# Altium schematic symbol library WCAP-ATLL.SchLib: 209 symbols (part 2 of 5)
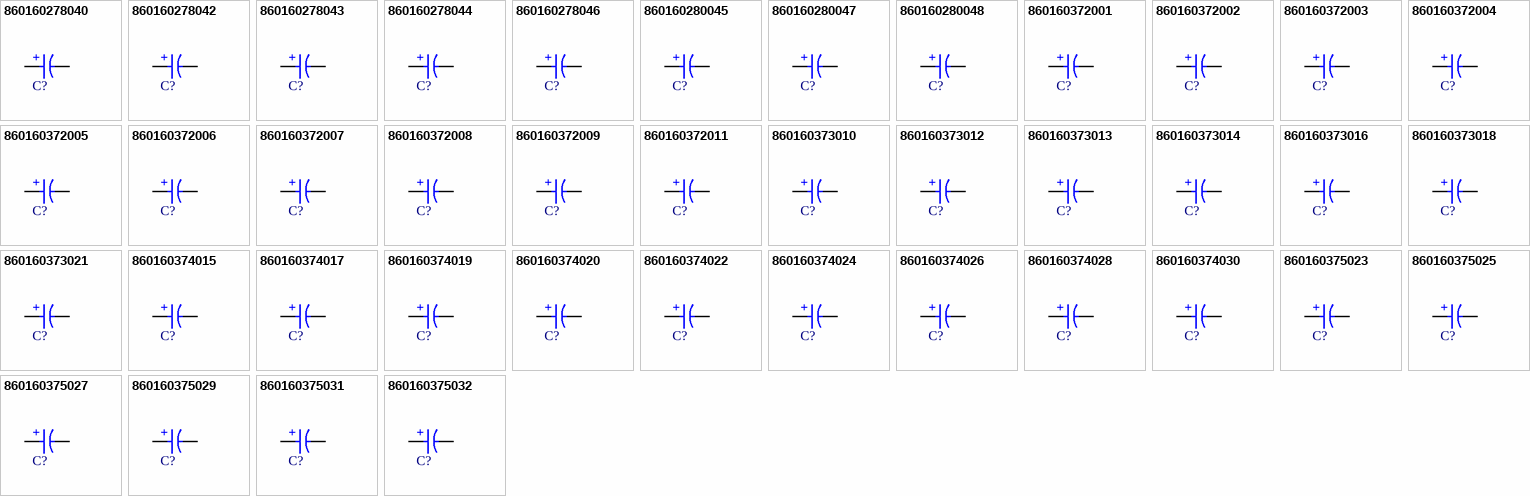
[diagram p6: symbols 860160278040 to 860160375032]

## 860160372005
designator C?, comment 33µF  (value not drawn)
WCAP-ATLL Aluminum Electrolytic Capacitor, Radial, THT, D5 x H11mm, 33µF, 16V; Manufacturer Part Number: 860160372005; Manufacturer: Wurth Elektronik; Capacitance Tolerance: +/-20%; Dissipation Factor: 16%; Endurance: 4000h; Leakage Current: 5.28µA; Ripple Current: 144mA; Technical Reference: ATEC110330M016DSPA3D000; Category: Aluminum Electrolytic Capacitors; Match Code: WCAP-ATLL; ComponentLink1Description: Website Link; ComponentLink1URL: https://www.we-online.com/redexpert/article/860160372005?ad; ComponentLink2Description: Datasheet Link; ComponentLink2URL: https://www.we-online.com/redexpert/spec/860160372005?ad; Mount: Through Hole; Operating Temperature Max: 105°C; Operating Temperature Min: -55°C; Packaging: Ammo Pack; Height: 11mm; Diameter: 5mm; Capacitance: 33µF; Rated Voltage (DC): 16V
footprint WCAP-ATLL_D5H11
simulation model 860160372005_33uF
pins: 1 P, 2 N
text: +

## 860160372006
designator C?, comment 39µF  (value not drawn)
WCAP-ATLL Aluminum Electrolytic Capacitor, Radial, THT, D5 x H11mm, 39µF, 16V; Manufacturer Part Number: 860160372006; Manufacturer: Wurth Elektronik; Capacitance Tolerance: +/-20%; Dissipation Factor: 16%; Endurance: 4000h; Leakage Current: 6.24µA; Ripple Current: 168mA; Technical Reference: ATEC110390M016DSPA3D000; Category: Aluminum Electrolytic Capacitors; Match Code: WCAP-ATLL; ComponentLink1Description: Website Link; ComponentLink1URL: https://www.we-online.com/redexpert/article/860160372006?ad; ComponentLink2Description: Datasheet Link; ComponentLink2URL: https://www.we-online.com/redexpert/spec/860160372006?ad; Mount: Through Hole; Operating Temperature Max: 105°C; Operating Temperature Min: -55°C; Packaging: Ammo Pack; Height: 11mm; Diameter: 5mm; Capacitance: 39µF; Rated Voltage (DC): 16V
footprint WCAP-ATLL_D5H11
simulation model 860160372006_39uF
pins: 1 P, 2 N
text: +

## 860160372007
designator C?, comment 47µF  (value not drawn)
WCAP-ATLL Aluminum Electrolytic Capacitor, Radial, THT, D5 x H11mm, 47µF, 16V; Manufacturer Part Number: 860160372007; Manufacturer: Wurth Elektronik; Capacitance Tolerance: +/-20%; Dissipation Factor: 16%; Endurance: 4000h; Leakage Current: 7.52µA; Ripple Current: 186mA; Technical Reference: ATEC110470M016DSPA3D000; Category: Aluminum Electrolytic Capacitors; Match Code: WCAP-ATLL; ComponentLink1Description: Website Link; ComponentLink1URL: https://www.we-online.com/redexpert/article/860160372007?ad; ComponentLink2Description: Datasheet Link; ComponentLink2URL: https://www.we-online.com/redexpert/spec/860160372007?ad; Mount: Through Hole; Operating Temperature Max: 105°C; Operating Temperature Min: -55°C; Packaging: Ammo Pack; Height: 11mm; Diameter: 5mm; Capacitance: 47µF; Rated Voltage (DC): 16V
footprint WCAP-ATLL_D5H11
simulation model 860160372007_47uF
pins: 1 P, 2 N
text: +

## 860160372008
designator C?, comment 56µF  (value not drawn)
WCAP-ATLL Aluminum Electrolytic Capacitor, Radial, THT, D5 x H11mm, 56µF, 16V; Manufacturer Part Number: 860160372008; Manufacturer: Wurth Elektronik; Capacitance Tolerance: +/-20%; Dissipation Factor: 16%; Endurance: 4000h; Leakage Current: 8.96µA; Ripple Current: 210mA; Technical Reference: ATEC110560M016DSPA3D000; Category: Aluminum Electrolytic Capacitors; Match Code: WCAP-ATLL; ComponentLink1Description: Website Link; ComponentLink1URL: https://www.we-online.com/redexpert/article/860160372008?ad; ComponentLink2Description: Datasheet Link; ComponentLink2URL: https://www.we-online.com/redexpert/spec/860160372008?ad; Mount: Through Hole; Operating Temperature Max: 105°C; Operating Temperature Min: -55°C; Packaging: Ammo Pack; Height: 11mm; Diameter: 5mm; Capacitance: 56µF; Rated Voltage (DC): 16V
footprint WCAP-ATLL_D5H11
simulation model 860160372008_56uF
pins: 1 P, 2 N
text: +

## 860160372009
designator C?, comment 68µF  (value not drawn)
WCAP-ATLL Aluminum Electrolytic Capacitor, Radial, THT, D5 x H11mm, 68µF, 16V; Manufacturer Part Number: 860160372009; Manufacturer: Wurth Elektronik; Capacitance Tolerance: +/-20%; Dissipation Factor: 16%; Endurance: 4000h; Leakage Current: 10.88µA; Ripple Current: 228mA; Technical Reference: ATEC110680M016DSPA3D000; Category: Aluminum Electrolytic Capacitors; Match Code: WCAP-ATLL; ComponentLink1Description: Website Link; ComponentLink1URL: https://www.we-online.com/redexpert/article/860160372009?ad; ComponentLink2Description: Datasheet Link; ComponentLink2URL: https://www.we-online.com/redexpert/spec/860160372009?ad; Mount: Through Hole; Operating Temperature Max: 105°C; Operating Temperature Min: -55°C; Packaging: Ammo Pack; Height: 11mm; Diameter: 5mm; Capacitance: 68µF; Rated Voltage (DC): 16V
footprint WCAP-ATLL_D5H11
simulation model 860160372009_68uF
pins: 1 P, 2 N
text: +

## 860160372011
designator C?, comment 100µF  (value not drawn)
WCAP-ATLL Aluminum Electrolytic Capacitor, Radial, THT, D5 x H11mm, 100µF, 16V; Manufacturer Part Number: 860160372011; Manufacturer: Wurth Elektronik; Capacitance Tolerance: +/-20%; Dissipation Factor: 16%; Endurance: 3000h; Leakage Current: 16µA; Ripple Current: 228mA; Technical Reference: ATEC110101M016DSPA3C000; Category: Aluminum Electrolytic Capacitors; Match Code: WCAP-ATLL; ComponentLink1Description: Website Link; ComponentLink1URL: https://www.we-online.com/redexpert/article/860160372011?ad; ComponentLink2Description: Datasheet Link; ComponentLink2URL: https://www.we-online.com/redexpert/spec/860160372011?ad; Mount: Through Hole; Operating Temperature Max: 105°C; Operating Temperature Min: -55°C; Packaging: Ammo Pack; Height: 11mm; Diameter: 5mm; Capacitance: 100µF; Rated Voltage (DC): 16V
footprint WCAP-ATLL_D5H11
simulation model 860160372011_100uF
pins: 1 P, 2 N
text: +

## 860160373010
designator C?, comment 82µF  (value not drawn)
WCAP-ATLL Aluminum Electrolytic Capacitor, Radial, THT, D6.3 x H11mm, 82µF, 16V; Manufacturer Part Number: 860160373010; Manufacturer: Wurth Elektronik; Capacitance Tolerance: +/-20%; Dissipation Factor: 16%; Endurance: 4000h; Leakage Current: 13.12µA; Ripple Current: 264mA; Technical Reference: ATED110820M016DSPA4D000; Category: Aluminum Electrolytic Capacitors; Match Code: WCAP-ATLL; ComponentLink1Description: Website Link; ComponentLink1URL: https://www.we-online.com/redexpert/article/860160373010?ad; ComponentLink2Description: Datasheet Link; ComponentLink2URL: https://www.we-online.com/redexpert/spec/860160373010?ad; Mount: Through Hole; Operating Temperature Max: 105°C; Operating Temperature Min: -55°C; Packaging: Ammo Pack; Height: 11mm; Diameter: 6.3mm; Capacitance: 82µF; Rated Voltage (DC): 16V
footprint WCAP-ATLL_D6.3H11
simulation model 860160373010_82uF
pins: 1 P, 2 N
text: +

## 860160373012
designator C?, comment 120µF  (value not drawn)
WCAP-ATLL Aluminum Electrolytic Capacitor, Radial, THT, D6.3 x H11mm, 120µF, 16V; Manufacturer Part Number: 860160373012; Manufacturer: Wurth Elektronik; Capacitance Tolerance: +/-20%; Dissipation Factor: 16%; Endurance: 4000h; Leakage Current: 19.2µA; Ripple Current: 312mA; Technical Reference: ATED110121M016DSPA4D000; Category: Aluminum Electrolytic Capacitors; Match Code: WCAP-ATLL; ComponentLink1Description: Website Link; ComponentLink1URL: https://www.we-online.com/redexpert/article/860160373012?ad; ComponentLink2Description: Datasheet Link; ComponentLink2URL: https://www.we-online.com/redexpert/spec/860160373012?ad; Mount: Through Hole; Operating Temperature Max: 105°C; Operating Temperature Min: -55°C; Packaging: Ammo Pack; Height: 11mm; Diameter: 6.3mm; Capacitance: 120µF; Rated Voltage (DC): 16V
footprint WCAP-ATLL_D6.3H11
simulation model 860160373012_120uF
pins: 1 P, 2 N
text: +

## 860160373013
designator C?, comment 150µF  (value not drawn)
WCAP-ATLL Aluminum Electrolytic Capacitor, Radial, THT, D6.3 x H11mm, 150µF, 16V; Manufacturer Part Number: 860160373013; Manufacturer: Wurth Elektronik; Capacitance Tolerance: +/-20%; Dissipation Factor: 16%; Endurance: 3000h; Leakage Current: 24µA; Ripple Current: 336mA; Technical Reference: ATED110151M016DSPA4C000; Category: Aluminum Electrolytic Capacitors; Match Code: WCAP-ATLL; ComponentLink1Description: Website Link; ComponentLink1URL: https://www.we-online.com/redexpert/article/860160373013?ad; ComponentLink2Description: Datasheet Link; ComponentLink2URL: https://www.we-online.com/redexpert/spec/860160373013?ad; Mount: Through Hole; Operating Temperature Max: 105°C; Operating Temperature Min: -55°C; Packaging: Ammo Pack; Height: 11mm; Diameter: 6.3mm; Capacitance: 150µF; Rated Voltage (DC): 16V
footprint WCAP-ATLL_D6.3H11
simulation model 860160373013_150uF
pins: 1 P, 2 N
text: +

## 860160373014
designator C?, comment 180µF  (value not drawn)
WCAP-ATLL Aluminum Electrolytic Capacitor, Radial, THT, D6.3 x H15mm, 180µF, 16V; Manufacturer Part Number: 860160373014; Manufacturer: Wurth Elektronik; Capacitance Tolerance: +/-20%; Dissipation Factor: 16%; Endurance: 4000h; Leakage Current: 28.8µA; Ripple Current: 420mA; Technical Reference: ATED150181M016DSPA4D000; Category: Aluminum Electrolytic Capacitors; Match Code: WCAP-ATLL; ComponentLink1Description: Website Link; ComponentLink1URL: https://www.we-online.com/redexpert/article/860160373014?ad; ComponentLink2Description: Datasheet Link; ComponentLink2URL: https://www.we-online.com/redexpert/spec/860160373014?ad; Mount: Through Hole; Operating Temperature Max: 105°C; Operating Temperature Min: -55°C; Packaging: Ammo Pack; Height: 15mm; Diameter: 6.3mm; Capacitance: 180µF; Rated Voltage (DC): 16V
footprint WCAP-ATLL_D6.3H15
simulation model 860160373014_180uF
pins: 1 P, 2 N
text: +

## 860160373016
designator C?, comment 220µF  (value not drawn)
WCAP-ATLL Aluminum Electrolytic Capacitor, Radial, THT, D6.3 x H15mm, 220µF, 16V; Manufacturer Part Number: 860160373016; Manufacturer: Wurth Elektronik; Capacitance Tolerance: +/-20%; Dissipation Factor: 16%; Endurance: 4000h; Leakage Current: 35.2µA; Ripple Current: 504mA; Technical Reference: ATED150221M016DSPA4D000; Category: Aluminum Electrolytic Capacitors; Match Code: WCAP-ATLL; ComponentLink1Description: Website Link; ComponentLink1URL: https://www.we-online.com/redexpert/article/860160373016?ad; ComponentLink2Description: Datasheet Link; ComponentLink2URL: https://www.we-online.com/redexpert/spec/860160373016?ad; Mount: Through Hole; Operating Temperature Max: 105°C; Operating Temperature Min: -55°C; Packaging: Ammo Pack; Height: 15mm; Diameter: 6.3mm; Capacitance: 220µF; Rated Voltage (DC): 16V
footprint WCAP-ATLL_D6.3H15
simulation model 860160373016_220uF
pins: 1 P, 2 N
text: +

## 860160373018
designator C?, comment 270µF  (value not drawn)
WCAP-ATLL Aluminum Electrolytic Capacitor, Radial, THT, D6.3 x H15mm, 270µF, 16V; Manufacturer Part Number: 860160373018; Manufacturer: Wurth Elektronik; Capacitance Tolerance: +/-20%; Dissipation Factor: 16%; Endurance: 3000h; Leakage Current: 43.2µA; Ripple Current: 540mA; Technical Reference: ATED150271M016DSPA4C000; Category: Aluminum Electrolytic Capacitors; Match Code: WCAP-ATLL; ComponentLink1Description: Website Link; ComponentLink1URL: https://www.we-online.com/redexpert/article/860160373018?ad; ComponentLink2Description: Datasheet Link; ComponentLink2URL: https://www.we-online.com/redexpert/spec/860160373018?ad; Mount: Through Hole; Operating Temperature Max: 105°C; Operating Temperature Min: -55°C; Packaging: Ammo Pack; Height: 15mm; Diameter: 6.3mm; Capacitance: 270µF; Rated Voltage (DC): 16V
footprint WCAP-ATLL_D6.3H15
simulation model 860160373018_270uF
pins: 1 P, 2 N
text: +

## 860160373021
designator C?, comment 330µF  (value not drawn)
WCAP-ATLL Aluminum Electrolytic Capacitor, Radial, THT, D6.3 x H15mm, 330µF, 16V; Manufacturer Part Number: 860160373021; Manufacturer: Wurth Elektronik; Capacitance Tolerance: +/-20%; Dissipation Factor: 16%; Endurance: 3000h; Leakage Current: 52.8µA; Ripple Current: 588mA; Technical Reference: ATED150331M016DSPA4C000; Category: Aluminum Electrolytic Capacitors; Match Code: WCAP-ATLL; ComponentLink1Description: Website Link; ComponentLink1URL: https://www.we-online.com/redexpert/article/860160373021?ad; ComponentLink2Description: Datasheet Link; ComponentLink2URL: https://www.we-online.com/redexpert/spec/860160373021?ad; Mount: Through Hole; Operating Temperature Max: 105°C; Operating Temperature Min: -55°C; Packaging: Ammo Pack; Height: 15mm; Diameter: 6.3mm; Capacitance: 330µF; Rated Voltage (DC): 16V
footprint WCAP-ATLL_D6.3H15
simulation model 860160373021_330uF
pins: 1 P, 2 N
text: +

## 860160374015
designator C?, comment 180µF  (value not drawn)
WCAP-ATLL Aluminum Electrolytic Capacitor, Radial, THT, D8 x H11.5mm, 180µF, 16V; Manufacturer Part Number: 860160374015; Manufacturer: Wurth Elektronik; Capacitance Tolerance: +/-20%; Dissipation Factor: 16%; Endurance: 7000h; Leakage Current: 28.8µA; Ripple Current: 426mA; Technical Reference: ATEE115181M016DSPA7G000; Category: Aluminum Electrolytic Capacitors; Match Code: WCAP-ATLL; ComponentLink1Description: Website Link; ComponentLink1URL: https://www.we-online.com/redexpert/article/860160374015?ad; ComponentLink2Description: Datasheet Link; ComponentLink2URL: https://www.we-online.com/redexpert/spec/860160374015?ad; Mount: Through Hole; Operating Temperature Max: 105°C; Operating Temperature Min: -55°C; Packaging: Ammo Pack; Height: 11.5mm; Diameter: 8mm; Capacitance: 180µF; Rated Voltage (DC): 16V
footprint WCAP-ATLL_D8H11.5
simulation model 860160374015_180uF
pins: 1 P, 2 N
text: +

## 860160374017
designator C?, comment 220µF  (value not drawn)
WCAP-ATLL Aluminum Electrolytic Capacitor, Radial, THT, D8 x H11.5mm, 220µF, 16V; Manufacturer Part Number: 860160374017; Manufacturer: Wurth Elektronik; Capacitance Tolerance: +/-20%; Dissipation Factor: 16%; Endurance: 7000h; Leakage Current: 35.2µA; Ripple Current: 540mA; Technical Reference: ATEE115221M016DSPA7G000; Category: Aluminum Electrolytic Capacitors; Match Code: WCAP-ATLL; ComponentLink1Description: Website Link; ComponentLink1URL: https://www.we-online.com/redexpert/article/860160374017?ad; ComponentLink2Description: Datasheet Link; ComponentLink2URL: https://www.we-online.com/redexpert/spec/860160374017?ad; Mount: Through Hole; Operating Temperature Max: 105°C; Operating Temperature Min: -55°C; Packaging: Ammo Pack; Height: 11.5mm; Diameter: 8mm; Capacitance: 220µF; Rated Voltage (DC): 16V
footprint WCAP-ATLL_D8H11.5
simulation model 860160374017_220uF
pins: 1 P, 2 N
text: +

## 860160374019
designator C?, comment 270µF  (value not drawn)
WCAP-ATLL Aluminum Electrolytic Capacitor, Radial, THT, D8 x H11.5mm, 270µF, 16V; Manufacturer Part Number: 860160374019; Manufacturer: Wurth Elektronik; Capacitance Tolerance: +/-20%; Dissipation Factor: 16%; Endurance: 7000h; Leakage Current: 43.2µA; Ripple Current: 582mA; Technical Reference: ATEE115271M016DSPA7G000; Category: Aluminum Electrolytic Capacitors; Match Code: WCAP-ATLL; ComponentLink1Description: Website Link; ComponentLink1URL: https://www.we-online.com/redexpert/article/860160374019?ad; ComponentLink2Description: Datasheet Link; ComponentLink2URL: https://www.we-online.com/redexpert/spec/860160374019?ad; Mount: Through Hole; Operating Temperature Max: 105°C; Operating Temperature Min: -55°C; Packaging: Ammo Pack; Height: 11.5mm; Diameter: 8mm; Capacitance: 270µF; Rated Voltage (DC): 16V
footprint WCAP-ATLL_D8H11.5
simulation model 860160374019_270uF
pins: 1 P, 2 N
text: +

## 860160374020
designator C?, comment 330µF  (value not drawn)
WCAP-ATLL Aluminum Electrolytic Capacitor, Radial, THT, D8 x H11.5mm, 330µF, 16V; Manufacturer Part Number: 860160374020; Manufacturer: Wurth Elektronik; Capacitance Tolerance: +/-20%; Dissipation Factor: 16%; Endurance: 4000h; Leakage Current: 52.8µA; Ripple Current: 588mA; Technical Reference: ATEE115331M016DSPA7D000; Category: Aluminum Electrolytic Capacitors; Match Code: WCAP-ATLL; ComponentLink1Description: Website Link; ComponentLink1URL: https://www.we-online.com/redexpert/article/860160374020?ad; ComponentLink2Description: Datasheet Link; ComponentLink2URL: https://www.we-online.com/redexpert/spec/860160374020?ad; Mount: Through Hole; Operating Temperature Max: 105°C; Operating Temperature Min: -55°C; Packaging: Ammo Pack; Height: 11.5mm; Diameter: 8mm; Capacitance: 330µF; Rated Voltage (DC): 16V
footprint WCAP-ATLL_D8H11.5
simulation model 860160374020_330uF
pins: 1 P, 2 N
text: +

## 860160374022
designator C?, comment 390µF  (value not drawn)
WCAP-ATLL Aluminum Electrolytic Capacitor, Radial, THT, D8 x H11.5mm, 390µF, 16V; Manufacturer Part Number: 860160374022; Manufacturer: Wurth Elektronik; Capacitance Tolerance: +/-20%; Dissipation Factor: 16%; Endurance: 4000h; Leakage Current: 62.4µA; Ripple Current: 612mA; Technical Reference: ATEE115391M016DSPA7D000; Category: Aluminum Electrolytic Capacitors; Match Code: WCAP-ATLL; ComponentLink1Description: Website Link; ComponentLink1URL: https://www.we-online.com/redexpert/article/860160374022?ad; ComponentLink2Description: Datasheet Link; ComponentLink2URL: https://www.we-online.com/redexpert/spec/860160374022?ad; Mount: Through Hole; Operating Temperature Max: 105°C; Operating Temperature Min: -55°C; Packaging: Ammo Pack; Height: 11.5mm; Diameter: 8mm; Capacitance: 390µF; Rated Voltage (DC): 16V
footprint WCAP-ATLL_D8H11.5
simulation model 860160374022_390uF
pins: 1 P, 2 N
text: +

## 860160374024
designator C?, comment 470µF  (value not drawn)
WCAP-ATLL Aluminum Electrolytic Capacitor, Radial, THT, D8 x H16mm, 470µF, 16V; Manufacturer Part Number: 860160374024; Manufacturer: Wurth Elektronik; Capacitance Tolerance: +/-20%; Dissipation Factor: 16%; Endurance: 4000h; Leakage Current: 75.2µA; Ripple Current: 846mA; Technical Reference: ATEE160471M016DSPA7D000; Category: Aluminum Electrolytic Capacitors; Match Code: WCAP-ATLL; ComponentLink1Description: Website Link; ComponentLink1URL: https://www.we-online.com/redexpert/article/860160374024?ad; ComponentLink2Description: Datasheet Link; ComponentLink2URL: https://www.we-online.com/redexpert/spec/860160374024?ad; Mount: Through Hole; Operating Temperature Max: 105°C; Operating Temperature Min: -55°C; Packaging: Ammo Pack; Height: 16mm; Diameter: 8mm; Capacitance: 470µF; Rated Voltage (DC): 16V
footprint WCAP-ATLL_D8H16
simulation model 860160374024_470uF
pins: 1 P, 2 N
text: +

## 860160374026
designator C?, comment 560µF  (value not drawn)
WCAP-ATLL Aluminum Electrolytic Capacitor, Radial, THT, D8 x H16mm, 560µF, 16V; Manufacturer Part Number: 860160374026; Manufacturer: Wurth Elektronik; Capacitance Tolerance: +/-20%; Dissipation Factor: 16%; Endurance: 4000h; Leakage Current: 89.6µA; Ripple Current: 864mA; Technical Reference: ATEE160561M016DSPA7D000; Category: Aluminum Electrolytic Capacitors; Match Code: WCAP-ATLL; ComponentLink1Description: Website Link; ComponentLink1URL: https://www.we-online.com/redexpert/article/860160374026?ad; ComponentLink2Description: Datasheet Link; ComponentLink2URL: https://www.we-online.com/redexpert/spec/860160374026?ad; Mount: Through Hole; Operating Temperature Max: 105°C; Operating Temperature Min: -55°C; Packaging: Ammo Pack; Height: 16mm; Diameter: 8mm; Capacitance: 560µF; Rated Voltage (DC): 16V
footprint WCAP-ATLL_D8H16
simulation model 860160374026_560uF
pins: 1 P, 2 N
text: +

## 860160374028
designator C?, comment 680µF  (value not drawn)
WCAP-ATLL Aluminum Electrolytic Capacitor, Radial, THT, D8 x H20mm, 680µF, 16V; Manufacturer Part Number: 860160374028; Manufacturer: Wurth Elektronik; Capacitance Tolerance: +/-20%; Dissipation Factor: 16%; Endurance: 4000h; Leakage Current: 108.8µA; Ripple Current: 960mA; Technical Reference: ATEE200681M016DSPA7D000; Category: Aluminum Electrolytic Capacitors; Match Code: WCAP-ATLL; ComponentLink1Description: Website Link; ComponentLink1URL: https://www.we-online.com/redexpert/article/860160374028?ad; ComponentLink2Description: Datasheet Link; ComponentLink2URL: https://www.we-online.com/redexpert/spec/860160374028?ad; Mount: Through Hole; Operating Temperature Max: 105°C; Operating Temperature Min: -55°C; Packaging: Ammo Pack; Height: 20mm; Diameter: 8mm; Capacitance: 680µF; Rated Voltage (DC): 16V
footprint WCAP-ATLL_D8H20
simulation model 860160374028_680uF
pins: 1 P, 2 N
text: +

## 860160374030
designator C?, comment 820µF  (value not drawn)
WCAP-ATLL Aluminum Electrolytic Capacitor, Radial, THT, D8 x H20mm, 820µF, 16V; Manufacturer Part Number: 860160374030; Manufacturer: Wurth Elektronik; Capacitance Tolerance: +/-20%; Dissipation Factor: 16%; Endurance: 4000h; Leakage Current: 131.2µA; Ripple Current: 1104mA; Technical Reference: ATEE200821M016DSPA7D000; Category: Aluminum Electrolytic Capacitors; Match Code: WCAP-ATLL; ComponentLink1Description: Website Link; ComponentLink1URL: https://www.we-online.com/redexpert/article/860160374030?ad; ComponentLink2Description: Datasheet Link; ComponentLink2URL: https://www.we-online.com/redexpert/spec/860160374030?ad; Mount: Through Hole; Operating Temperature Max: 105°C; Operating Temperature Min: -55°C; Packaging: Ammo Pack; Height: 20mm; Diameter: 8mm; Capacitance: 820µF; Rated Voltage (DC): 16V
footprint WCAP-ATLL_D8H20
simulation model 860160374030_820uF
pins: 1 P, 2 N
text: +

## 860160375023
designator C?, comment 390µF  (value not drawn)
WCAP-ATLL Aluminum Electrolytic Capacitor, Radial, THT, D10 x H12.5mm, 390µF, 16V; Manufacturer Part Number: 860160375023; Manufacturer: Wurth Elektronik; Capacitance Tolerance: +/-20%; Dissipation Factor: 16%; Endurance: 7000h; Leakage Current: 62.4µA; Ripple Current: 648mA; Technical Reference: ATEF125391M016DSPA9G000; Category: Aluminum Electrolytic Capacitors; Match Code: WCAP-ATLL; ComponentLink1Description: Website Link; ComponentLink1URL: https://www.we-online.com/redexpert/article/860160375023?ad; ComponentLink2Description: Datasheet Link; ComponentLink2URL: https://www.we-online.com/redexpert/spec/860160375023?ad; Mount: Through Hole; Operating Temperature Max: 105°C; Operating Temperature Min: -55°C; Packaging: Ammo Pack; Height: 12.5mm; Diameter: 10mm; Capacitance: 390µF; Rated Voltage (DC): 16V
footprint WCAP-ATLL_D10H12.5
simulation model 860160375023_390uF
pins: 1 P, 2 N
text: +

## 860160375025
designator C?, comment 470µF  (value not drawn)
WCAP-ATLL Aluminum Electrolytic Capacitor, Radial, THT, D10 x H12.5mm, 470µF, 16V; Manufacturer Part Number: 860160375025; Manufacturer: Wurth Elektronik; Capacitance Tolerance: +/-20%; Dissipation Factor: 16%; Endurance: 7000h; Leakage Current: 75.2µA; Ripple Current: 882mA; Technical Reference: ATEF125471M016DSPA9G000; Category: Aluminum Electrolytic Capacitors; Match Code: WCAP-ATLL; ComponentLink1Description: Website Link; ComponentLink1URL: https://www.we-online.com/redexpert/article/860160375025?ad; ComponentLink2Description: Datasheet Link; ComponentLink2URL: https://www.we-online.com/redexpert/spec/860160375025?ad; Mount: Through Hole; Operating Temperature Max: 105°C; Operating Temperature Min: -55°C; Packaging: Ammo Pack; Height: 12.5mm; Diameter: 10mm; Capacitance: 470µF; Rated Voltage (DC): 16V
footprint WCAP-ATLL_D10H12.5
simulation model 860160375025_470uF
pins: 1 P, 2 N
text: +

## 860160375027
designator C?, comment 560µF  (value not drawn)
WCAP-ATLL Aluminum Electrolytic Capacitor, Radial, THT, D10 x H12.5mm, 560µF, 16V; Manufacturer Part Number: 860160375027; Manufacturer: Wurth Elektronik; Capacitance Tolerance: +/-20%; Dissipation Factor: 16%; Endurance: 6000h; Leakage Current: 89.6µA; Ripple Current: 882mA; Technical Reference: ATEF125561M016DSPA9F000; Category: Aluminum Electrolytic Capacitors; Match Code: WCAP-ATLL; ComponentLink1Description: Website Link; ComponentLink1URL: https://www.we-online.com/redexpert/article/860160375027?ad; ComponentLink2Description: Datasheet Link; ComponentLink2URL: https://www.we-online.com/redexpert/spec/860160375027?ad; Mount: Through Hole; Operating Temperature Max: 105°C; Operating Temperature Min: -55°C; Packaging: Ammo Pack; Height: 12.5mm; Diameter: 10mm; Capacitance: 560µF; Rated Voltage (DC): 16V
footprint WCAP-ATLL_D10H12.5
simulation model 860160375027_560uF
pins: 1 P, 2 N
text: +

## 860160375029
designator C?, comment 680µF  (value not drawn)
WCAP-ATLL Aluminum Electrolytic Capacitor, Radial, THT, D10 x H16mm, 680µF, 16V; Manufacturer Part Number: 860160375029; Manufacturer: Wurth Elektronik; Capacitance Tolerance: +/-20%; Dissipation Factor: 16%; Endurance: 7000h; Leakage Current: 108.8µA; Ripple Current: 1044mA; Technical Reference: ATEF160681M016DSPAAG000; Category: Aluminum Electrolytic Capacitors; Match Code: WCAP-ATLL; ComponentLink1Description: Website Link; ComponentLink1URL: https://www.we-online.com/redexpert/article/860160375029?ad; ComponentLink2Description: Datasheet Link; ComponentLink2URL: https://www.we-online.com/redexpert/spec/860160375029?ad; Mount: Through Hole; Operating Temperature Max: 105°C; Operating Temperature Min: -55°C; Packaging: Ammo Pack; Height: 16mm; Diameter: 10mm; Capacitance: 680µF; Rated Voltage (DC): 16V
footprint WCAP-ATLL_D10H16
simulation model 860160375029_680uF
pins: 1 P, 2 N
text: +

## 860160375031
designator C?, comment 820µF  (value not drawn)
WCAP-ATLL Aluminum Electrolytic Capacitor, Radial, THT, D10 x H16mm, 820µF, 16V; Manufacturer Part Number: 860160375031; Manufacturer: Wurth Elektronik; Capacitance Tolerance: +/-20%; Dissipation Factor: 16%; Endurance: 6000h; Leakage Current: 131.2µA; Ripple Current: 1254mA; Technical Reference: ATEF160821M016DSPAAF000; Category: Aluminum Electrolytic Capacitors; Match Code: WCAP-ATLL; ComponentLink1Description: Website Link; ComponentLink1URL: https://www.we-online.com/redexpert/article/860160375031?ad; ComponentLink2Description: Datasheet Link; ComponentLink2URL: https://www.we-online.com/redexpert/spec/860160375031?ad; Mount: Through Hole; Operating Temperature Max: 105°C; Operating Temperature Min: -55°C; Packaging: Ammo Pack; Height: 16mm; Diameter: 10mm; Capacitance: 820µF; Rated Voltage (DC): 16V
footprint WCAP-ATLL_D10H16
simulation model 860160375031_820uF
pins: 1 P, 2 N
text: +

## 860160375032
designator C?, comment 1000µF  (value not drawn)
WCAP-ATLL Aluminum Electrolytic Capacitor, Radial, THT, D10 x H16mm, 1000µF, 16V; Manufacturer Part Number: 860160375032; Manufacturer: Wurth Elektronik; Capacitance Tolerance: +/-20%; Dissipation Factor: 16%; Endurance: 6000h; Leakage Current: 160µA; Ripple Current: 1404mA; Technical Reference: ATEF160102M016DSPAAF000; Category: Aluminum Electrolytic Capacitors; Match Code: WCAP-ATLL; ComponentLink1Description: Website Link; ComponentLink1URL: https://www.we-online.com/redexpert/article/860160375032?ad; ComponentLink2Description: Datasheet Link; ComponentLink2URL: https://www.we-online.com/redexpert/spec/860160375032?ad; Mount: Through Hole; Operating Temperature Max: 105°C; Operating Temperature Min: -55°C; Packaging: Ammo Pack; Height: 16mm; Diameter: 10mm; Capacitance: 1000µF; Rated Voltage (DC): 16V
footprint WCAP-ATLL_D10H16
simulation model 860160375032_1mF
pins: 1 P, 2 N
text: +

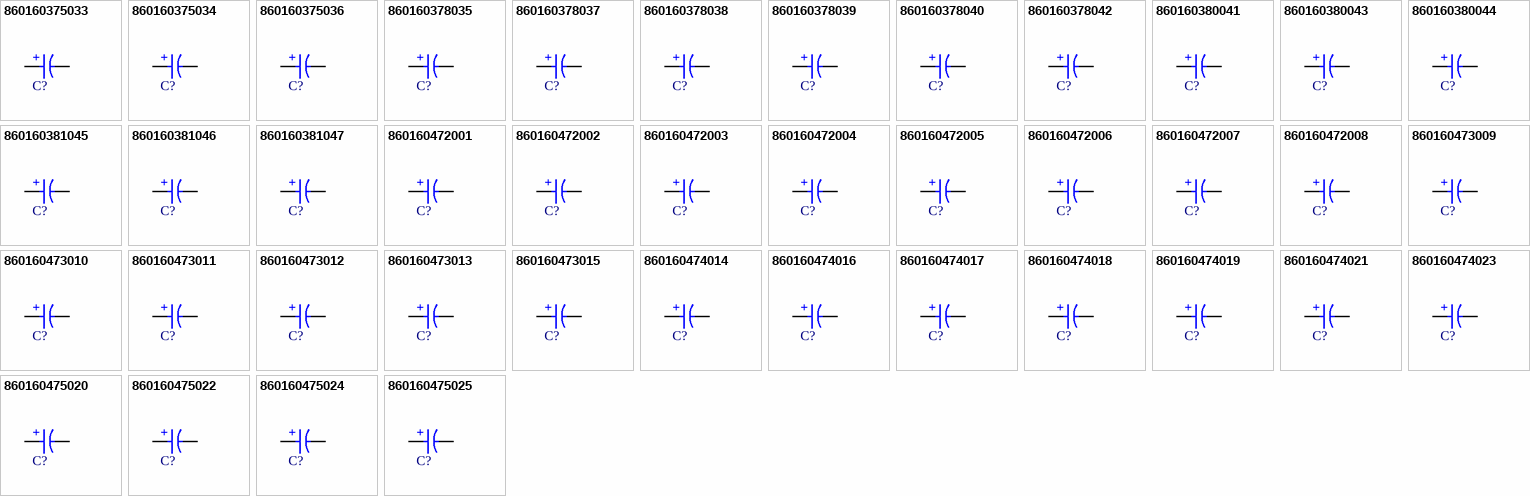
[diagram p2: symbols 860160375033 to 860160475025]

## 860160375033
designator C?, comment 1200µF  (value not drawn)
WCAP-ATLL Aluminum Electrolytic Capacitor, Radial, THT, D10 x H20mm, 1200µF, 16V; Manufacturer Part Number: 860160375033; Manufacturer: Wurth Elektronik; Capacitance Tolerance: +/-20%; Dissipation Factor: 16%; Endurance: 6000h; Leakage Current: 192µA; Ripple Current: 1500mA; Technical Reference: ATEF200122M016DSPAAF000; Category: Aluminum Electrolytic Capacitors; Match Code: WCAP-ATLL; ComponentLink1Description: Website Link; ComponentLink1URL: https://www.we-online.com/redexpert/article/860160375033?ad; ComponentLink2Description: Datasheet Link; ComponentLink2URL: https://www.we-online.com/redexpert/spec/860160375033?ad; Mount: Through Hole; Operating Temperature Max: 105°C; Operating Temperature Min: -55°C; Packaging: Ammo Pack; Height: 20mm; Diameter: 10mm; Capacitance: 1200µF; Rated Voltage (DC): 16V
footprint WCAP-ATLL_D10H20
simulation model 860160375033_1.2mF
pins: 1 P, 2 N
text: +

## 860160375034
designator C?, comment 1500µF  (value not drawn)
WCAP-ATLL Aluminum Electrolytic Capacitor, Radial, THT, D10 x H25mm, 1500µF, 16V; Manufacturer Part Number: 860160375034; Manufacturer: Wurth Elektronik; Capacitance Tolerance: +/-20%; Dissipation Factor: 16%; Endurance: 6000h; Leakage Current: 240µA; Ripple Current: 1620mA; Technical Reference: ATEF250152M016DSPAAF000; Category: Aluminum Electrolytic Capacitors; Match Code: WCAP-ATLL; ComponentLink1Description: Website Link; ComponentLink1URL: https://www.we-online.com/redexpert/article/860160375034?ad; ComponentLink2Description: Datasheet Link; ComponentLink2URL: https://www.we-online.com/redexpert/spec/860160375034?ad; Mount: Through Hole; Operating Temperature Max: 105°C; Operating Temperature Min: -55°C; Packaging: Ammo Pack; Height: 25mm; Diameter: 10mm; Capacitance: 1500µF; Rated Voltage (DC): 16V
footprint WCAP-ATLL_D10H25
simulation model 860160375034_1.5mF
pins: 1 P, 2 N
text: +

## 860160375036
designator C?, comment 1800µF  (value not drawn)
WCAP-ATLL Aluminum Electrolytic Capacitor, Radial, THT, D10 x H30mm, 1800µF, 16V; Manufacturer Part Number: 860160375036; Manufacturer: Wurth Elektronik; Capacitance Tolerance: +/-20%; Dissipation Factor: 16%; Endurance: 6000h; Leakage Current: 288µA; Ripple Current: 1776mA; Technical Reference: ATEF300182M016DSPAAF000; Category: Aluminum Electrolytic Capacitors; Match Code: WCAP-ATLL; ComponentLink1Description: Website Link; ComponentLink1URL: https://www.we-online.com/redexpert/article/860160375036?ad; ComponentLink2Description: Datasheet Link; ComponentLink2URL: https://www.we-online.com/redexpert/spec/860160375036?ad; Mount: Through Hole; Operating Temperature Max: 105°C; Operating Temperature Min: -55°C; Packaging: Ammo Pack; Height: 30mm; Diameter: 10mm; Capacitance: 1800µF; Rated Voltage (DC): 16V
footprint WCAP-ATLL_D10H30
simulation model 860160375036_1.8mF
pins: 1 P, 2 N
text: +

## 860160378035
designator C?, comment 1500µF  (value not drawn)
WCAP-ATLL Aluminum Electrolytic Capacitor, Radial, THT, D13 x H20mm, 1500µF, 16V; Manufacturer Part Number: 860160378035; Manufacturer: Wurth Elektronik; Capacitance Tolerance: +/-20%; Dissipation Factor: 16%; Endurance: 10000h; Leakage Current: 240µA; Ripple Current: 1728mA; Technical Reference: ATEI200152M016DSPACK000; Category: Aluminum Electrolytic Capacitors; Match Code: WCAP-ATLL; ComponentLink1Description: Website Link; ComponentLink1URL: https://www.we-online.com/redexpert/article/860160378035?ad; ComponentLink2Description: Datasheet Link; ComponentLink2URL: https://www.we-online.com/redexpert/spec/860160378035?ad; Mount: Through Hole; Operating Temperature Max: 105°C; Operating Temperature Min: -55°C; Packaging: Ammo Pack; Height: 20mm; Diameter: 13mm; Capacitance: 1500µF; Rated Voltage (DC): 16V
footprint WCAP-ATLL_D13H20
simulation model 860160378035_1.5mF
pins: 1 P, 2 N
text: +

## 860160378037
designator C?, comment 1800µF  (value not drawn)
WCAP-ATLL Aluminum Electrolytic Capacitor, Radial, THT, D13 x H20mm, 1800µF, 16V; Manufacturer Part Number: 860160378037; Manufacturer: Wurth Elektronik; Capacitance Tolerance: +/-20%; Dissipation Factor: 16%; Endurance: 7000h; Leakage Current: 288µA; Ripple Current: 1854mA; Technical Reference: ATEI200182M016DSPACG000; Category: Aluminum Electrolytic Capacitors; Match Code: WCAP-ATLL; ComponentLink1Description: Website Link; ComponentLink1URL: https://www.we-online.com/redexpert/article/860160378037?ad; ComponentLink2Description: Datasheet Link; ComponentLink2URL: https://www.we-online.com/redexpert/spec/860160378037?ad; Mount: Through Hole; Operating Temperature Max: 105°C; Operating Temperature Min: -55°C; Packaging: Ammo Pack; Height: 20mm; Diameter: 13mm; Capacitance: 1800µF; Rated Voltage (DC): 16V
footprint WCAP-ATLL_D13H20
simulation model 860160378037_1.8mF
pins: 1 P, 2 N
text: +

## 860160378038
designator C?, comment 2200µF  (value not drawn)
WCAP-ATLL Aluminum Electrolytic Capacitor, Radial, THT, D13 x H20mm, 2200µF, 16V; Manufacturer Part Number: 860160378038; Manufacturer: Wurth Elektronik; Capacitance Tolerance: +/-20%; Dissipation Factor: 16%; Endurance: 7000h; Leakage Current: 352µA; Ripple Current: 2082mA; Technical Reference: ATEI200222M016DSPACG000; Category: Aluminum Electrolytic Capacitors; Match Code: WCAP-ATLL; ComponentLink1Description: Website Link; ComponentLink1URL: https://www.we-online.com/redexpert/article/860160378038?ad; ComponentLink2Description: Datasheet Link; ComponentLink2URL: https://www.we-online.com/redexpert/spec/860160378038?ad; Mount: Through Hole; Operating Temperature Max: 105°C; Operating Temperature Min: -55°C; Packaging: Ammo Pack; Height: 20mm; Diameter: 13mm; Capacitance: 2200µF; Rated Voltage (DC): 16V
footprint WCAP-ATLL_D13H20
simulation model 860160378038_2.2mF
pins: 1 P, 2 N
text: +

## 860160378039
designator C?, comment 2700µF  (value not drawn)
WCAP-ATLL Aluminum Electrolytic Capacitor, Radial, THT, D13 x H25mm, 2700µF, 16V; Manufacturer Part Number: 860160378039; Manufacturer: Wurth Elektronik; Capacitance Tolerance: +/-20%; Dissipation Factor: 16%; Endurance: 7000h; Leakage Current: 432µA; Ripple Current: 2436mA; Technical Reference: ATEI250272M016DSPACG000; Category: Aluminum Electrolytic Capacitors; Match Code: WCAP-ATLL; ComponentLink1Description: Website Link; ComponentLink1URL: https://www.we-online.com/redexpert/article/860160378039?ad; ComponentLink2Description: Datasheet Link; ComponentLink2URL: https://www.we-online.com/redexpert/spec/860160378039?ad; Mount: Through Hole; Operating Temperature Max: 105°C; Operating Temperature Min: -55°C; Packaging: Ammo Pack; Height: 25mm; Diameter: 13mm; Capacitance: 2700µF; Rated Voltage (DC): 16V
footprint WCAP-ATLL_D13H25
simulation model 860160378039_2.7mF
pins: 1 P, 2 N
text: +

## 860160378040
designator C?, comment 3300µF  (value not drawn)
WCAP-ATLL Aluminum Electrolytic Capacitor, Radial, THT, D13 x H30mm, 3300µF, 16V; Manufacturer Part Number: 860160378040; Manufacturer: Wurth Elektronik; Capacitance Tolerance: +/-20%; Dissipation Factor: 16%; Endurance: 7000h; Leakage Current: 528µA; Ripple Current: 2562mA; Technical Reference: ATEI300332M016DSPACG000; Category: Aluminum Electrolytic Capacitors; Match Code: WCAP-ATLL; ComponentLink1Description: Website Link; ComponentLink1URL: https://www.we-online.com/redexpert/article/860160378040?ad; ComponentLink2Description: Datasheet Link; ComponentLink2URL: https://www.we-online.com/redexpert/spec/860160378040?ad; Mount: Through Hole; Operating Temperature Max: 105°C; Operating Temperature Min: -55°C; Packaging: Ammo Pack; Height: 30mm; Diameter: 13mm; Capacitance: 3300µF; Rated Voltage (DC): 16V
footprint WCAP-ATLL_D13H30
simulation model 860160378040_3.3mF
pins: 1 P, 2 N
text: +

## 860160378042
designator C?, comment 3900µF  (value not drawn)
WCAP-ATLL Aluminum Electrolytic Capacitor, Radial, THT, D13 x H35mm, 3900µF, 16V; Manufacturer Part Number: 860160378042; Manufacturer: Wurth Elektronik; Capacitance Tolerance: +/-20%; Dissipation Factor: 16%; Endurance: 7000h; Leakage Current: 624µA; Ripple Current: 2664mA; Technical Reference: ATEI350392M016DSPABG000; Category: Aluminum Electrolytic Capacitors; Match Code: WCAP-ATLL; ComponentLink1Description: Website Link; ComponentLink1URL: https://www.we-online.com/redexpert/article/860160378042?ad; ComponentLink2Description: Datasheet Link; ComponentLink2URL: https://www.we-online.com/redexpert/spec/860160378042?ad; Mount: Through Hole; Operating Temperature Max: 105°C; Operating Temperature Min: -55°C; Packaging: Ammo Pack; Height: 35mm; Diameter: 13mm; Capacitance: 3900µF; Rated Voltage (DC): 16V
footprint WCAP-ATLL_D13H35
simulation model 860160378042_3.9mF
pins: 1 P, 2 N
text: +

## 860160380041
designator C?, comment 3300µF  (value not drawn)
WCAP-ATLL Aluminum Electrolytic Capacitor, Radial, THT, D16 x H25mm, 3300µF, 16V; Manufacturer Part Number: 860160380041; Manufacturer: Wurth Elektronik; Capacitance Tolerance: +/-20%; Dissipation Factor: 16%; Endurance: 7000h; Leakage Current: 528µA; Ripple Current: 2700mA; Technical Reference: ATEK250332M016DSPAEG000; Category: Aluminum Electrolytic Capacitors; Match Code: WCAP-ATLL; ComponentLink1Description: Website Link; ComponentLink1URL: https://www.we-online.com/redexpert/article/860160380041?ad; ComponentLink2Description: Datasheet Link; ComponentLink2URL: https://www.we-online.com/redexpert/spec/860160380041?ad; Mount: Through Hole; Operating Temperature Max: 105°C; Operating Temperature Min: -55°C; Packaging: Ammo Pack; Height: 25mm; Diameter: 16mm; Capacitance: 3300µF; Rated Voltage (DC): 16V
footprint WCAP-ATLL_D16H25
simulation model 860160380041_3.3mF
pins: 1 P, 2 N
text: +

## 860160380043
designator C?, comment 3900µF  (value not drawn)
WCAP-ATLL Aluminum Electrolytic Capacitor, Radial, THT, D16 x H25mm, 3900µF, 16V; Manufacturer Part Number: 860160380043; Manufacturer: Wurth Elektronik; Capacitance Tolerance: +/-20%; Dissipation Factor: 16%; Endurance: 7000h; Leakage Current: 624µA; Ripple Current: 2736mA; Technical Reference: ATEK250392M016DSPAEG000; Category: Aluminum Electrolytic Capacitors; Match Code: WCAP-ATLL; ComponentLink1Description: Website Link; ComponentLink1URL: https://www.we-online.com/redexpert/article/860160380043?ad; ComponentLink2Description: Datasheet Link; ComponentLink2URL: https://www.we-online.com/redexpert/spec/860160380043?ad; Mount: Through Hole; Operating Temperature Max: 105°C; Operating Temperature Min: -55°C; Packaging: Ammo Pack; Height: 25mm; Diameter: 16mm; Capacitance: 3900µF; Rated Voltage (DC): 16V
footprint WCAP-ATLL_D16H25
simulation model 860160380043_3.9mF
pins: 1 P, 2 N
text: +

## 860160380044
designator C?, comment 4700µF  (value not drawn)
WCAP-ATLL Aluminum Electrolytic Capacitor, Radial, THT, D16 x H31.5mm, 4700µF, 16V; Manufacturer Part Number: 860160380044; Manufacturer: Wurth Elektronik; Capacitance Tolerance: +/-20%; Dissipation Factor: 16%; Endurance: 10000h; Leakage Current: 752µA; Ripple Current: 2886mA; Technical Reference: ATEK315472M016DSPADK000; Category: Aluminum Electrolytic Capacitors; Match Code: WCAP-ATLL; ComponentLink1Description: Website Link; ComponentLink1URL: https://www.we-online.com/redexpert/article/860160380044?ad; ComponentLink2Description: Datasheet Link; ComponentLink2URL: https://www.we-online.com/redexpert/spec/860160380044?ad; Mount: Through Hole; Operating Temperature Max: 105°C; Operating Temperature Min: -55°C; Packaging: Ammo Pack; Height: 31.5mm; Diameter: 16mm; Capacitance: 4700µF; Rated Voltage (DC): 16V
footprint WCAP-ATLL_D16H31.5
simulation model 860160380044_4.7mF
pins: 1 P, 2 N
text: +

## 860160381045
designator C?, comment 4700µF  (value not drawn)
WCAP-ATLL Aluminum Electrolytic Capacitor, Radial, THT, D18 x H25mm, 4700µF, 16V; Manufacturer Part Number: 860160381045; Manufacturer: Wurth Elektronik; Capacitance Tolerance: +/-20%; Dissipation Factor: 16%; Endurance: 7000h; Leakage Current: 752µA; Ripple Current: 2844mA; Technical Reference: ATEL250472M016DSPAEG000; Category: Aluminum Electrolytic Capacitors; Match Code: WCAP-ATLL; ComponentLink1Description: Website Link; ComponentLink1URL: https://www.we-online.com/redexpert/article/860160381045?ad; ComponentLink2Description: Datasheet Link; ComponentLink2URL: https://www.we-online.com/redexpert/spec/860160381045?ad; Mount: Through Hole; Operating Temperature Max: 105°C; Operating Temperature Min: -55°C; Packaging: Ammo Pack; Height: 25mm; Diameter: 18mm; Capacitance: 4700µF; Rated Voltage (DC): 16V
footprint WCAP-ATLL_D18H25
simulation model 860160381045_4.7mF
pins: 1 P, 2 N
text: +

## 860160381046
designator C?, comment 5600µF  (value not drawn)
WCAP-ATLL Aluminum Electrolytic Capacitor, Radial, THT, D18 x H31.5mm, 5600µF, 16V; Manufacturer Part Number: 860160381046; Manufacturer: Wurth Elektronik; Capacitance Tolerance: +/-20%; Dissipation Factor: 16%; Endurance: 7000h; Leakage Current: 896µA; Ripple Current: 3084mA; Technical Reference: ATEL315562M016DSPAEG000; Category: Aluminum Electrolytic Capacitors; Match Code: WCAP-ATLL; ComponentLink1Description: Website Link; ComponentLink1URL: https://www.we-online.com/redexpert/article/860160381046?ad; ComponentLink2Description: Datasheet Link; ComponentLink2URL: https://www.we-online.com/redexpert/spec/860160381046?ad; Mount: Through Hole; Operating Temperature Max: 105°C; Operating Temperature Min: -55°C; Packaging: Ammo Pack; Height: 31.5mm; Diameter: 18mm; Capacitance: 5600µF; Rated Voltage (DC): 16V
footprint WCAP-ATLL_D18H31.5
simulation model 860160381046_5.6mF
pins: 1 P, 2 N
text: +

## 860160381047
designator C?, comment 6800µF  (value not drawn)
WCAP-ATLL Aluminum Electrolytic Capacitor, Radial, THT, D18 x H35.5mm, 6800µF, 16V; Manufacturer Part Number: 860160381047; Manufacturer: Wurth Elektronik; Capacitance Tolerance: +/-20%; Dissipation Factor: 16%; Endurance: 7000h; Leakage Current: 1088µA; Ripple Current: 3252mA; Technical Reference: ATEL355682M016DSPAEG000; Category: Aluminum Electrolytic Capacitors; Match Code: WCAP-ATLL; ComponentLink1Description: Website Link; ComponentLink1URL: https://www.we-online.com/redexpert/article/860160381047?ad; ComponentLink2Description: Datasheet Link; ComponentLink2URL: https://www.we-online.com/redexpert/spec/860160381047?ad; Mount: Through Hole; Operating Temperature Max: 105°C; Operating Temperature Min: -55°C; Packaging: Ammo Pack; Height: 35.5mm; Diameter: 18mm; Capacitance: 6800µF; Rated Voltage (DC): 16V
footprint WCAP-ATLL_D18H35.5
simulation model 860160381047_6.8mF
pins: 1 P, 2 N
text: +

## 860160472001
designator C?, comment 10µF  (value not drawn)
WCAP-ATLL Aluminum Electrolytic Capacitor, Radial, THT, D5 x H11mm, 10µF, 25V; Manufacturer Part Number: 860160472001; Manufacturer: Wurth Elektronik; Capacitance Tolerance: +/-20%; Dissipation Factor: 14%; Endurance: 4000h; Leakage Current: 3µA; Ripple Current: 66mA; Technical Reference: ATEC110100M025DSPA3D000; Category: Aluminum Electrolytic Capacitors; Match Code: WCAP-ATLL; ComponentLink1Description: Website Link; ComponentLink1URL: https://www.we-online.com/redexpert/article/860160472001?ad; ComponentLink2Description: Datasheet Link; ComponentLink2URL: https://www.we-online.com/redexpert/spec/860160472001?ad; Mount: Through Hole; Operating Temperature Max: 105°C; Operating Temperature Min: -55°C; Packaging: Ammo Pack; Height: 11mm; Diameter: 5mm; Capacitance: 10µF; Rated Voltage (DC): 25V
footprint WCAP-ATLL_D5H11
simulation model 860160472001_10uF
pins: 1 P, 2 N
text: +

## 860160472002
designator C?, comment 15µF  (value not drawn)
WCAP-ATLL Aluminum Electrolytic Capacitor, Radial, THT, D5 x H11mm, 15µF, 25V; Manufacturer Part Number: 860160472002; Manufacturer: Wurth Elektronik; Capacitance Tolerance: +/-20%; Dissipation Factor: 14%; Endurance: 4000h; Leakage Current: 3.75µA; Ripple Current: 120mA; Technical Reference: ATEC110150M025DSPA3D000; Category: Aluminum Electrolytic Capacitors; Match Code: WCAP-ATLL; ComponentLink1Description: Website Link; ComponentLink1URL: https://www.we-online.com/redexpert/article/860160472002?ad; ComponentLink2Description: Datasheet Link; ComponentLink2URL: https://www.we-online.com/redexpert/spec/860160472002?ad; Mount: Through Hole; Operating Temperature Max: 105°C; Operating Temperature Min: -55°C; Packaging: Ammo Pack; Height: 11mm; Diameter: 5mm; Capacitance: 15µF; Rated Voltage (DC): 25V
footprint WCAP-ATLL_D5H11
simulation model 860160472002_15uF
pins: 1 P, 2 N
text: +

## 860160472003
designator C?, comment 22µF  (value not drawn)
WCAP-ATLL Aluminum Electrolytic Capacitor, Radial, THT, D5 x H11mm, 22µF, 25V; Manufacturer Part Number: 860160472003; Manufacturer: Wurth Elektronik; Capacitance Tolerance: +/-20%; Dissipation Factor: 14%; Endurance: 4000h; Leakage Current: 5.5µA; Ripple Current: 144mA; Technical Reference: ATEC110220M025DSPA3D000; Category: Aluminum Electrolytic Capacitors; Match Code: WCAP-ATLL; ComponentLink1Description: Website Link; ComponentLink1URL: https://www.we-online.com/redexpert/article/860160472003?ad; ComponentLink2Description: Datasheet Link; ComponentLink2URL: https://www.we-online.com/redexpert/spec/860160472003?ad; Mount: Through Hole; Operating Temperature Max: 105°C; Operating Temperature Min: -55°C; Packaging: Ammo Pack; Height: 11mm; Diameter: 5mm; Capacitance: 22µF; Rated Voltage (DC): 25V
footprint WCAP-ATLL_D5H11
simulation model 860160472003_22uF
pins: 1 P, 2 N
text: +

## 860160472004
designator C?, comment 27µF  (value not drawn)
WCAP-ATLL Aluminum Electrolytic Capacitor, Radial, THT, D5 x H11mm, 27µF, 25V; Manufacturer Part Number: 860160472004; Manufacturer: Wurth Elektronik; Capacitance Tolerance: +/-20%; Dissipation Factor: 14%; Endurance: 4000h; Leakage Current: 6.75µA; Ripple Current: 156mA; Technical Reference: ATEC110270M025DSPA3D000; Category: Aluminum Electrolytic Capacitors; Match Code: WCAP-ATLL; ComponentLink1Description: Website Link; ComponentLink1URL: https://www.we-online.com/redexpert/article/860160472004?ad; ComponentLink2Description: Datasheet Link; ComponentLink2URL: https://www.we-online.com/redexpert/spec/860160472004?ad; Mount: Through Hole; Operating Temperature Max: 105°C; Operating Temperature Min: -55°C; Packaging: Ammo Pack; Height: 11mm; Diameter: 5mm; Capacitance: 27µF; Rated Voltage (DC): 25V
footprint WCAP-ATLL_D5H11
simulation model 860160472004_27uF
pins: 1 P, 2 N
text: +

## 860160472005
designator C?, comment 33µF  (value not drawn)
WCAP-ATLL Aluminum Electrolytic Capacitor, Radial, THT, D5 x H11mm, 33µF, 25V; Manufacturer Part Number: 860160472005; Manufacturer: Wurth Elektronik; Capacitance Tolerance: +/-20%; Dissipation Factor: 14%; Endurance: 4000h; Leakage Current: 8.25µA; Ripple Current: 174mA; Technical Reference: ATEC110330M025DSPA3D000; Category: Aluminum Electrolytic Capacitors; Match Code: WCAP-ATLL; ComponentLink1Description: Website Link; ComponentLink1URL: https://www.we-online.com/redexpert/article/860160472005?ad; ComponentLink2Description: Datasheet Link; ComponentLink2URL: https://www.we-online.com/redexpert/spec/860160472005?ad; Mount: Through Hole; Operating Temperature Max: 105°C; Operating Temperature Min: -55°C; Packaging: Ammo Pack; Height: 11mm; Diameter: 5mm; Capacitance: 33µF; Rated Voltage (DC): 25V
footprint WCAP-ATLL_D5H11
simulation model 860160472005_33uF
pins: 1 P, 2 N
text: +

## 860160472006
designator C?, comment 39µF  (value not drawn)
WCAP-ATLL Aluminum Electrolytic Capacitor, Radial, THT, D5 x H11mm, 39µF, 25V; Manufacturer Part Number: 860160472006; Manufacturer: Wurth Elektronik; Capacitance Tolerance: +/-20%; Dissipation Factor: 14%; Endurance: 4000h; Leakage Current: 9.75µA; Ripple Current: 174mA; Technical Reference: ATEC110390M025DSPA3D000; Category: Aluminum Electrolytic Capacitors; Match Code: WCAP-ATLL; ComponentLink1Description: Website Link; ComponentLink1URL: https://www.we-online.com/redexpert/article/860160472006?ad; ComponentLink2Description: Datasheet Link; ComponentLink2URL: https://www.we-online.com/redexpert/spec/860160472006?ad; Mount: Through Hole; Operating Temperature Max: 105°C; Operating Temperature Min: -55°C; Packaging: Ammo Pack; Height: 11mm; Diameter: 5mm; Capacitance: 39µF; Rated Voltage (DC): 25V
footprint WCAP-ATLL_D5H11
simulation model 860160472006_39uF
pins: 1 P, 2 N
text: +

## 860160472007
designator C?, comment 47µF  (value not drawn)
WCAP-ATLL Aluminum Electrolytic Capacitor, Radial, THT, D5 x H11mm, 47µF, 25V; Manufacturer Part Number: 860160472007; Manufacturer: Wurth Elektronik; Capacitance Tolerance: +/-20%; Dissipation Factor: 14%; Endurance: 4000h; Leakage Current: 11.75µA; Ripple Current: 222mA; Technical Reference: ATEC110470M025DSPA3D000; Category: Aluminum Electrolytic Capacitors; Match Code: WCAP-ATLL; ComponentLink1Description: Website Link; ComponentLink1URL: https://www.we-online.com/redexpert/article/860160472007?ad; ComponentLink2Description: Datasheet Link; ComponentLink2URL: https://www.we-online.com/redexpert/spec/860160472007?ad; Mount: Through Hole; Operating Temperature Max: 105°C; Operating Temperature Min: -55°C; Packaging: Ammo Pack; Height: 11mm; Diameter: 5mm; Capacitance: 47µF; Rated Voltage (DC): 25V
footprint WCAP-ATLL_D5H11
simulation model 860160472007_47uF
pins: 1 P, 2 N
text: +

## 860160472008
designator C?, comment 56µF  (value not drawn)
WCAP-ATLL Aluminum Electrolytic Capacitor, Radial, THT, D5 x H11mm, 56µF, 25V; Manufacturer Part Number: 860160472008; Manufacturer: Wurth Elektronik; Capacitance Tolerance: +/-20%; Dissipation Factor: 14%; Endurance: 4000h; Leakage Current: 14µA; Ripple Current: 264mA; Technical Reference: ATEC110560M025DSPA3D000; Category: Aluminum Electrolytic Capacitors; Match Code: WCAP-ATLL; ComponentLink1Description: Website Link; ComponentLink1URL: https://www.we-online.com/redexpert/article/860160472008?ad; ComponentLink2Description: Datasheet Link; ComponentLink2URL: https://www.we-online.com/redexpert/spec/860160472008?ad; Mount: Through Hole; Operating Temperature Max: 105°C; Operating Temperature Min: -55°C; Packaging: Ammo Pack; Height: 11mm; Diameter: 5mm; Capacitance: 56µF; Rated Voltage (DC): 25V
footprint WCAP-ATLL_D5H11
simulation model 860160472008_56uF
pins: 1 P, 2 N
text: +

## 860160473009
designator C?, comment 68µF  (value not drawn)
WCAP-ATLL Aluminum Electrolytic Capacitor, Radial, THT, D6.3 x H11mm, 68µF, 25V; Manufacturer Part Number: 860160473009; Manufacturer: Wurth Elektronik; Capacitance Tolerance: +/-20%; Dissipation Factor: 14%; Endurance: 4000h; Leakage Current: 17µA; Ripple Current: 300mA; Technical Reference: ATED110680M025DSPA4D000; Category: Aluminum Electrolytic Capacitors; Match Code: WCAP-ATLL; ComponentLink1Description: Website Link; ComponentLink1URL: https://www.we-online.com/redexpert/article/860160473009?ad; ComponentLink2Description: Datasheet Link; ComponentLink2URL: https://www.we-online.com/redexpert/spec/860160473009?ad; Mount: Through Hole; Operating Temperature Max: 105°C; Operating Temperature Min: -55°C; Packaging: Ammo Pack; Height: 11mm; Diameter: 6.3mm; Capacitance: 68µF; Rated Voltage (DC): 25V
footprint WCAP-ATLL_D6.3H11
simulation model 860160473009_68uF
pins: 1 P, 2 N
text: +